# Altium schematic symbol library Components - 09.09.24 - 13.29.SchLib: 1 symbol
Pins are listed as number, name and electrical type; pins without a type are passive.

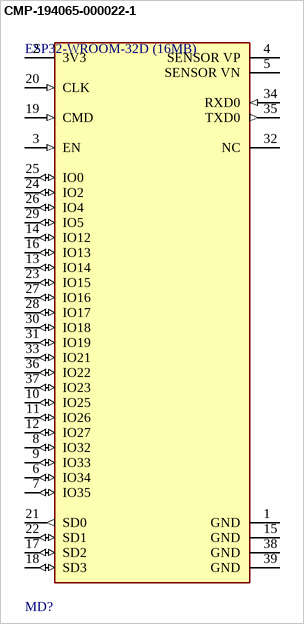
[diagram p0: symbol CMP-194065-000022-1]

## CMP-194065-000022-1
designator MD?, comment ESP32-WROOM-32D (16MB)
RX TXRX MOD WIFI TRACE ANT SMD; Data Rate: 150Mbps; Memory Size: 536KB; Interface: I2C; Frequency: 2.5GHz; Sensitivity: -98dBm; Packaging: Tape and Reel; Min Operating Temperature: -40°C; Max Operating Temperature: 85°C; Mount: Surface Mount; Case/Package: SMD/SMT
footprint FP-ESP32-WROOM-32D_16MB-MFG
pins: 1 GND (power), 2 3V3 (power), 3 EN (in), 4 SENSOR VP, 5 SENSOR VN, 6 IO34 (io), 7 IO35 (io), 8 IO32 (io), 9 IO33 (io), 10 IO25 (io), 11 IO26 (io), 12 IO27 (io), 13 IO14 (io), 14 IO12 (io), 15 GND (power), 16 IO13 (io), 17 SD2 (io), 18 SD3 (io), 19 CMD (in), 20 CLK (in), 21 SD0 (out), 22 SD1 (io), 23 IO15 (io), 24 IO2 (io), 25 IO0 (io), 26 IO4 (io), 27 IO16 (io), 28 IO17 (io), 29 IO5 (io), 30 IO18 (io), 31 IO19 (io), 32 NC, 33 IO21 (io), 34 RXD0 (in), 35 TXD0 (out), 36 IO22 (io), 37 IO23 (io), 38 GND (power), 39 GND (power)